# Altium integrated library flatsat_platform_2.IntLib: 69 symbols
Pins are listed as number, name and electrical type; pins without a type are passive.

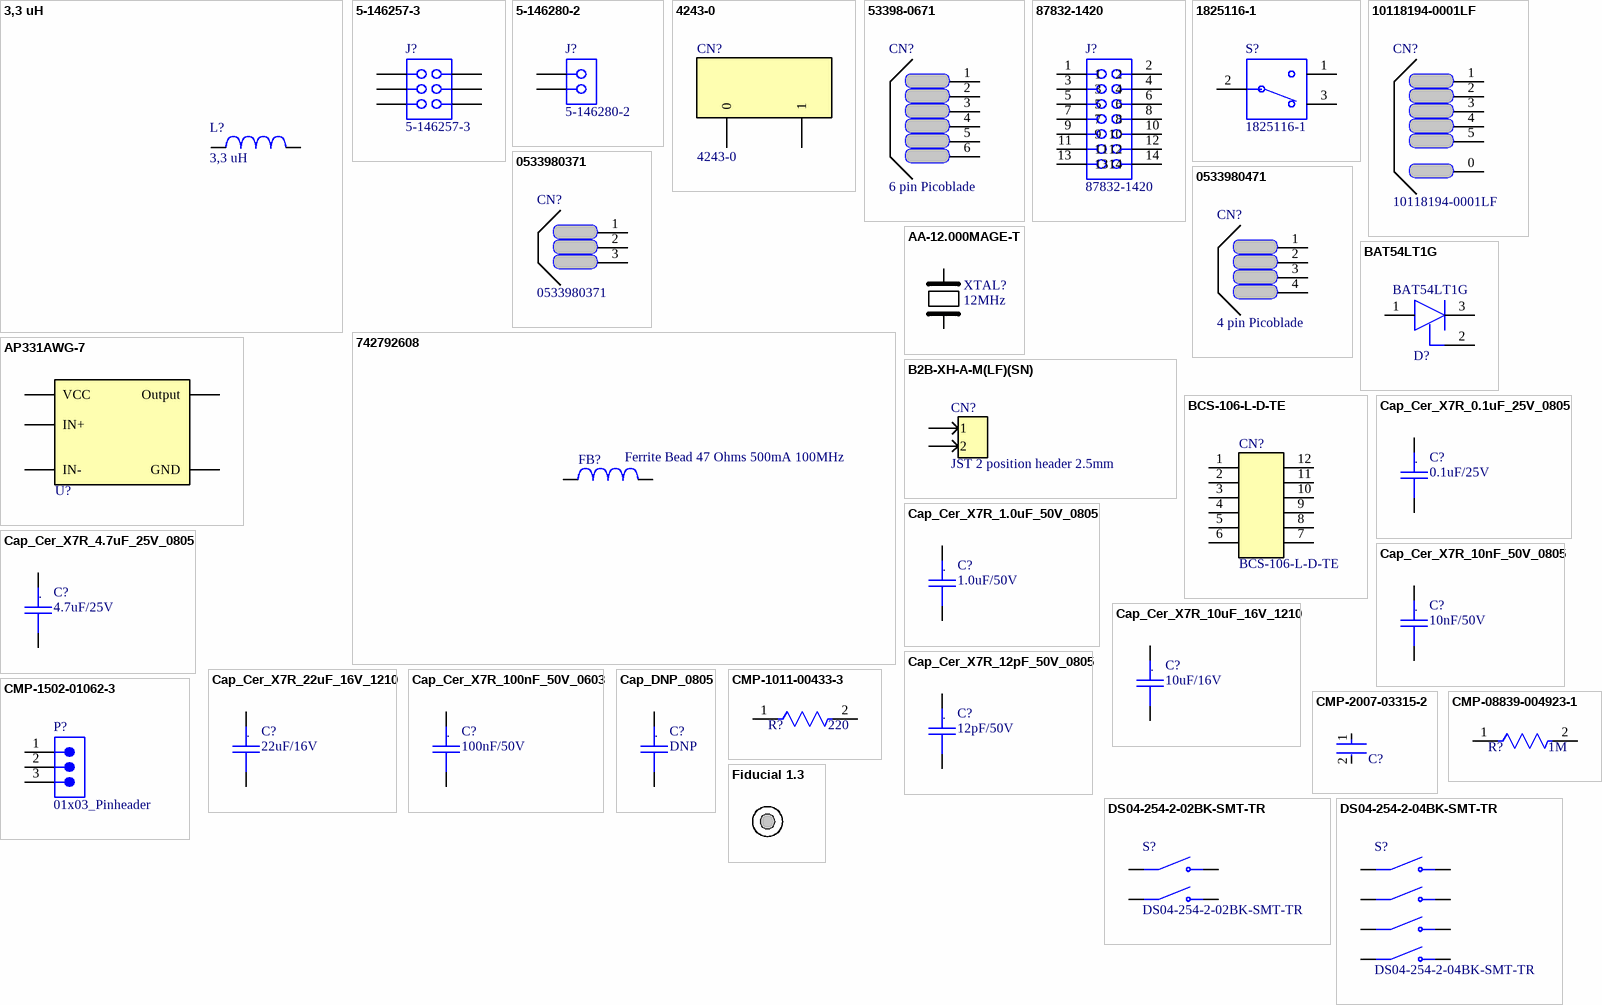
[diagram p0: symbols 3,3 uH to Fiducial 1.3]

## 3,3 uH
designator L?
3.3ÂµH Shielded Wirewound Inductor 3.5A 20mOhm Max Nonstandard; Manufacturer Part Number: SRR6038-3R3Y; MF: Bourns; Value: *; Availability: Unavailable; Price: None; SnapEDA_Link: https://www.snapeda.com/parts/SRR6038-3R3Y/Bourns/view-part/885274/?ref=snap; Package: Nonstandard Bourns
footprint SRR6038
footprint SRR6038
pins: 1, 2

## 5-146257-3
designator J?
Header; Breakaway; 0.100 x 0.100 in.; PC Board; Dual; 6; 0.025 in.; 0.12 in.; Product_Type: Connector; Number_of_Positions: 6; MF: TE Connectivity; Centerline_Pitch: 2.54 mm[.1 in]; Package: None; EU_RoHS_Compliance: Compliant; DigiKey-Purchase-URL: https://snapeda.com/shop?store=DigiKey&id=338021; Value: *; Mouser-Purchase-URL: https://snapeda.com/shop?store=Mouser&id=338021; Availability: Warning; Price: None; SnapEDA_Link: https://www.snapeda.com/parts/5-146257-3/TE%20Connectivity%20AMP%20Connectors/view-part/338021/?ref=snap; Manufacturer Part Number: 5-146257-3
footprint TE_5-146257-3
footprint TE_5-146257-3
pins: 1, 2, 3, 4, 5, 6

## 5-146280-2
designator J?
02 MODII HDR SRST B/A .100CL; MF: TE Connectivity; Product_Type: Connector; Number_of_Positions: 2; Centerline_Pitch: 2.54 mm[.1 in]; SnapEDA_Link: https://www.snapeda.com/parts/5-146280-2/TE%20Connectivity%20AMP%20Connectors/view-part/298520/?ref=snap; Price: None; EU_RoHS_Compliance: Compliant; Package: None; Availability: Unavailable; TE_purchase_URL: https://www.te.com/usa-en/product-5-146280-2.html?te_bu=Cor&te_type=disp&te_campaign=seda_glo_cor-seda-global-disp-prtnr-fy19-seda-model-bom-cta_sma-317_1&elqCampaignId=32493; Value: *; Manufacturer Part Number: 5-146280-2
footprint TE_5-146280-2
footprint PIN BAR 2 2.54mm 180 GRAUS (HEADER 2 2.54mm 180 GRAUS)
pins: 1, 2

## 4243-0
designator CN?
POMONA, 4243-0, Binding Post, 4243 Series, 15 A, 60 VDC, Tin Plated Contacts, Brass, Black; Manufacturer: Pomona Electronics; Voltage Rating: 2.5kV; Current Rating: 15A; Voltage Rating (DC): 60V; Voltage Rating (AC): 30V; Insulation: Insulated; Number of Ports: 2; Hole Diameter: 0.1inch; Panel Thickness: 6.35mm; Supplier 1: Digi-Key; Manufacturer Part Number: 4243-0; RoHS: Yes; Category: Connectors; Stock 1: 327; Pricing 1: 1=8.99000, 25=8.54040, 50=8.09100, 100=7.73150 (USD); Mount: Panel; Number of Pins: 1; Contact Plating: Tin,Bright; Contact Material: Brass; Color: Black,Red; Housing Material: Polycarbonate; Housing Color: Black; Body Material: Brass; Insulation Material: Polycarbonate; Package Quantity: 5; Packaging: Bulk; Termination: Turret; Orientation: Straight; Max Current Rating: 15A; Length: 30.23mm; Depth: 11.18mm; REACH SVHC: No SVHC; Lead Free: Lead Free; ComponentLink1URL: https://datasheet.ciiva.com/1453/d4243-1-01-1453890.pdf?src-supplier=Element14; ComponentLink1Description: https://datasheet.ciiva.com/1453/d4243-1-01-1453890.pdf?src-supplier=Element14; ComponentLink2URL: https://datasheet.ciiva.com/16883/70198115-16883751.pdf?src-supplier=Allied+Electronics; ComponentLink2Description: https://datasheet.ciiva.com/16883/70198115-16883751.pdf?src-supplier=Allied+Electronics; ComponentLink3URL: https://datasheet.ciiva.com/30105/d4243-1-02-30105753.pdf?src-supplier=Onlinecomponents.com; ComponentLink3Description: https://datasheet.ciiva.com/30105/d4243-1-02-30105753.pdf?src-supplier=Onlinecomponents.com; Supplier Part Number 1: 501-1126-ND
footprint 4243-0
pins: 0, 1

## 53398-0671
designator CN?, comment 6 pin Picoblade
1.25mm Pitch PicoBlade™ Header, Surface Mount, Vertical, 6 Circuits; Manufacturer: Molex; Manufacturer Part Number: 53398-0671; Body Plating: Tin; Contact Resistance: 20mR; Voltage Rating: 125V; Current Rating: 1A; Number of Positions: 6; Insulation Resistance: 100MR; Gender: Male; Glow Wire Compliant: Non-compliant; Supplier 1: Digi-Key; Supplier Part Number 1: WM7610DKR-ND; Stock 1: 21086; Pricing 1: 1=1.39, 10=1.26, 100=1.0802, 500=0.90014 (USD); Mount: Surface Mount; Color: Natural; Contact Plating: Tin; Contact Material: Bronze,Tin; Housing Color: Natural; Housing Material: Nylon; Min Operating Temperature: -40°C; Max Operating Temperature: 85°C; Packaging: Tape and Reel; Number of Rows: 1; Voltage Rating (AC): 125V; Package Quantity: 1000; Termination: Solder; Number of Contacts: 6; Working Voltage: 125V; Orientation: Vertical; Number of Circuits: 6; Voltage Rating (DC): 125V; Lead Pitch: 1.25mm; Pitch: 1.25mm; Radiation Hardening: No; REACH SVHC: Unknown; Lead Free: Lead Free; Flammability Rating: UL94 V-0; ComponentLink1URL: https://www.molex.com/pdm_docs/sd/533980671_sd.pdf?src-supplier=Digi-Key; ComponentLink1Description: https://www.molex.com/pdm_docs/sd/533980671_sd.pdf?src-supplier=Digi-Key; Supplier 2: Mouser; Supplier Part Number 2: 538-53398-0671; Stock 2: 26; Pricing 2: 1=1.15, 10=1.01, 100=0.864, 500=0.727, 1000=0.427, 2000=0.374 (USD)
footprint PICO BLADE 0533980671 (CONN HEADER SMD 6POS 1.25MM)
pins: 1, 2, 3, 4, 5, 6

## 87832-1420
designator J?
Connector Header Surface Mount 14 position 0.079 _2.00mm_; Manufacturer Part Number: TSW-107-05-F-D; MF: Molex; Value: *; SnapEDA_Link: https://www.snapeda.com/parts/87832-1420/Molex/view-part/78740/?ref=snap; Price: None; Package: None; Availability: Unavailable
footprint MOLEX_87832-1420
footprint MOLEX_87832-1420
footprint SAMTEC_TSW-107-05-F-D
pins: 1, 2, 3, 4, 5, 6, 7, 8, 9, 10, 11, 12, 13, 14

## 1825116-1
designator S?
Slide Switch SPDT Through Hole, Right Angle; MF: TE Connectivity; Price: None; Value: *; EU_RoHS_Compliance: Compliant; Package: None; TE_purchase_URL: https://www.te.com/usa-en/product-1825116-1.html?te_bu=Cor&te_type=disp&te_campaign=seda_glo_cor-seda-global-disp-prtnr-fy19-seda-model-bom-cta_sma-317_1&elqCampaignId=32493; SnapEDA_Link: https://www.snapeda.com/parts/1825116-1/TE%20Connectivity%20ALCOSWITCH%20Switches/view-part/497270/?ref=snap; Availability: Unavailable; Manufacturer Part Number: 1825116-1
footprint SW_1825116-1
footprint SW_1825116-1
pins: 1, 2, 3

## 10118194-0001LF
designator CN?
CONN USB MICRO B RECPT SMT R/A; Manufacturer: FCI; N of Positions: 5; Pitch: 0.65mm; Mount Type: PTH; Supplier 1: Digi-Key; Supplier 2: Farnell; Supplier 3: Mouser; Supplier 4: Newark; Supplier Part Number 1: 609-4618-1-ND; Supplier Part Number 2: 1645325; Supplier Part Number 3: 649-10118194-0001LF; Supplier Part Number 4: 67T2260; Manufacturer Part Number: 10118194-0001LF
footprint MICRO USB B 90GRAUS
pins: 0, 1, 2, 3, 4, 5

## 0533980371
designator CN?
CONN HEADER SMD 3POS 1.25MM; Manufacturer: Molex; Manufacturer Part Number: 53398-0371; N of Positions: 3; Pitch: 1.25mm; Mount Type: SMD; Value: 0533980371
footprint PICO BLADE 0533980371
pins: 1, 2, 3

## 0533980471
designator CN?, comment 4 pin Picoblade
1.25mm Pitch PicoBlade™ Header, Surface Mount, Vertical, 4 Circuits; Manufacturer: Molex; Manufacturer Part Number: 53398-0471; N of Positions: 4; Value: 0533980471; Body Plating: Tin; Gender: Male; Current Rating: 1A; Voltage Rating: 125V; Contact Resistance: 20mR; Insulation Resistance: 100MR; Glow Wire Compliant: Non-compliant; Pitch: 1.25mm; Mount Type: SMD; Supplier 1: Digi-Key; Supplier Part Number 1: WM7608CT-ND; Stock 1: 21236; Pricing 1: 1=1.19, 10=1.044, 100=0.901, 500=0.73716 (USD); Mount: Surface Mount; Contact Plating: Tin; Contact Material: Bronze,Tin,Brass; Color: Natural; Housing Color: Natural; Housing Material: Nylon; Min Operating Temperature: -40°C; Max Operating Temperature: 85°C; Number of Rows: 1; Packaging: Tape and Reel; Number of Positions: 4; Termination: Solder; Package Quantity: 1000; Voltage Rating (AC): 125V; Number of Contacts: 4; Working Voltage: 125V; Orientation: Vertical; Number of Circuits: 4; Voltage Rating (DC): 125V; Lead Pitch: 1.25mm; Radiation Hardening: No; Flammability Rating: UL94 V-0; REACH SVHC: Unknown; Lead Free: Lead Free; ComponentLink1URL: http://www.mouser.com/ds/2/276/0533980471_PCB_HEADERS-171069.pdf?src-supplier=Mouser; ComponentLink1Description: http://www.mouser.com/ds/2/276/0533980471_PCB_HEADERS-171069.pdf?src-supplier=Mouser; ComponentLink2URL: http://www.jameco.com/Jameco/Products/ProdDS/1932627.pdf?src-supplier=Jameco; ComponentLink2Description: http://www.jameco.com/Jameco/Products/ProdDS/1932627.pdf?src-supplier=Jameco; ComponentLink3URL: https://www.distrelec.biz/Web/Downloads/46/_e/gf116833-116846_e.pdf?mime=application%2Fpdf&src-supplier=Distrelec; ComponentLink3Description: https://www.distrelec.biz/Web/Downloads/46/_e/gf116833-116846_e.pdf?mime=application%2Fpdf&src-supplier=Distrelec; ComponentLink4URL: http://www.molex.com/webdocs/datasheets/pdf/en-us/0533980471_PCB_HEADERS.pdf?src-supplier=Element14; ComponentLink4Description: http://www.molex.com/webdocs/datasheets/pdf/en-us/0533980471_PCB_HEADERS.pdf?src-supplier=Element14; ComponentLink5URL: http://www.farnell.com/datasheets/1867381.pdf?src-supplier=Element14; ComponentLink5Description: http://www.farnell.com/datasheets/1867381.pdf?src-supplier=Element14; ComponentLink6URL: http://uk.rs-online.com/webdocs/13c4/0900766b813c4500.pdf?src-supplier=RSComponents; ComponentLink6Description: http://uk.rs-online.com/webdocs/13c4/0900766b813c4500.pdf?src-supplier=RSComponents; ComponentLink7URL: http://www.molex.com/webdocs/datasheets/pdf/en-us/0533980471_PCB_HEADERS.pdf?src-supplier=Farnell; ComponentLink7Description: http://www.molex.com/webdocs/datasheets/pdf/en-us/0533980471_PCB_HEADERS.pdf?src-supplier=Farnell; ComponentLink8URL: http://www.farnell.com/datasheets/2697809.pdf?src-supplier=Element14; ComponentLink8Description: http://www.farnell.com/datasheets/2697809.pdf?src-supplier=Element14; ComponentLink9URL: http://www.molex.com/webdocs/datasheets/pdf/en-us/0533980471_PCB_HEADERS.pdf?src-supplier=Avnet; ComponentLink9Description: http://www.molex.com/webdocs/datasheets/pdf/en-us/0533980471_PCB_HEADERS.pdf?src-supplier=Avnet; ComponentLink10URL: http://www.molex.com/webdocs/datasheets/pdf/en-us/0533980471_PCB_HEADERS.pdf?src-supplier=Avnet+Europe; ComponentLink10Description: http://www.molex.com/webdocs/datasheets/pdf/en-us/0533980471_PCB_HEADERS.pdf?src-supplier=Avnet+Europe; Supplier 2: Mouser; Supplier Part Number 2: 538-53398-0471; Stock 2: 43680; Pricing 2: 1=0.98, 10=0.832, 100=0.716, 500=0.6, 1000=0.391, 2000=0.342 (USD)
footprint PICO BLADE 0533980471
pins: 1, 2, 3, 4

## 742792608
designator FB?, comment Ferrite Bead 47 Ohms 500mA 100MHz
WURTH ELEKTRONIK   742792608   FERRITE BEAD, 47 OHM, 0.5A, 0603; Manufacturer: Wurth Electronics; Resistance: 100mR; Inductance: 1H; Tolerance: 25%; Number of Lines: 1; Supplier 1: Digi-Key; Supplier Part Number 1: 732-1596-1-ND; Stock 1: 969; Pricing 1: 1=0.17, 50=0.168, 100=0.155, 500=0.148, 1000=0.141, 2000=0.134 (USD); Mount: Surface Mount; Case/Package: SMD/SMT; Weight: 0.000141oz; Core Material: Ferrite; Case Code (Metric): 1608; Case Code (Imperial): 0603; Material: Ferrite; Min Operating Temperature: -55°C; Max Operating Temperature: 125°C; Package Quantity: 1; Packaging: Tape and Reel; Max Current Rating: 500mA; DC Resistance (DCR): 100mR; Max DC Current: 500mA; Termination: SMD/SMT; Length: 1.6mm; Height: 0.8mm; Width: 0.8mm; Depth: 0.8mm; REACH SVHC: Unknown; Lead Free: Lead Free; ComponentLink1URL: http://katalog.we-online.de/pbs/datasheet/742792608.pdf?src-supplier=Digi-Key; ComponentLink1Description: http://katalog.we-online.de/pbs/datasheet/742792608.pdf?src-supplier=Digi-Key; ComponentLink2URL: http://www.farnell.com/datasheets/2290671.pdf?src-supplier=Farnell; ComponentLink2Description: http://www.farnell.com/datasheets/2290671.pdf?src-supplier=Farnell; ComponentLink3URL: http://documents.rs-components.com/techlib://itc_doclist_GB.htm?stockno=6693986&src-supplier=RSComponents; ComponentLink3Description: http://documents.rs-components.com/techlib://itc_doclist_GB.htm?stockno=6693986&src-supplier=RSComponents; ComponentLink4URL: http://www.farnell.com/datasheets/1696033.pdf?src-supplier=Element14; ComponentLink4Description: http://www.farnell.com/datasheets/1696033.pdf?src-supplier=Element14; ComponentLink5URL: http://www.mouser.com/ds/2/445/742792608-538481.pdf?src-supplier=Mouser; ComponentLink5Description: http://www.mouser.com/ds/2/445/742792608-538481.pdf?src-supplier=Mouser; ComponentLink6URL: http://www.farnell.com/datasheets/2290671.pdf?src-supplier=Newark; ComponentLink6Description: http://www.farnell.com/datasheets/2290671.pdf?src-supplier=Newark; Supplier 2: Mouser; Supplier Part Number 2: 710-742792608; Stock 2: 6414; Pricing 2: 1=0.18, 10=0.172, 25=0.172, 50=0.168, 100=0.155, 250=0.155 (USD); Manufacturer Part Number: 742792608
footprint L0603
pins: 1, 2

## AA-12.000MAGE-T
designator XTAL?, comment Frequency: 12MHz  (hidden comment: 12.000MHz 12pF)
Crystals 12.000MHz 30ppm 12pF -40C to 85C; Manufacturer: TXC; Manufacturer Part Number: AA-12.000MAGE-T; ESR (Equivalent Series Resistance): 100R; Frequency Stability: 50ppm; Supplier 1: Digi-Key; Supplier Part Number 1: 887-1656-1-ND; Stock 1: 2398; Pricing 1: 1=0.83, 10=0.734, 50=0.6858, 100=0.6061, 500=0.5742 (USD); Mount: Surface Mount; Case/Package: SMD/SMT; Number of Pins: 2; Min Operating Temperature: -40°C; Max Operating Temperature: 85°C; Package Quantity: 1000; Tolerance: 30ppm; Packaging: Tape and Reel; Frequency Tolerance: 30ppm; Termination: SMD/SMT; Length: 0.197inch; Height: 0.053inch; Width: 3.2mm; Ratings: AEC-Q200; REACH SVHC: No SVHC; ComponentLink1URL: http://www.txccrystal.com/images/pdf/number-crystal-automotive.pdf?src-supplier=Digi-Key; ComponentLink1Description: http://www.txccrystal.com/images/pdf/number-crystal-automotive.pdf?src-supplier=Digi-Key; ComponentLink2URL: http://www.farnell.com/datasheets/1811860.pdf?src-supplier=Element14; ComponentLink2Description: http://www.farnell.com/datasheets/1811860.pdf?src-supplier=Element14; Supplier 2: Mouser; Supplier Part Number 2: 717-AA-12.000MAGE-T; Stock 2: 4856; Pricing 2: 1=0.83, 10=0.734, 50=0.685, 100=0.606, 500=0.574, 1000=0.435 (USD)
footprint TXC 7A Series
pins: 1, 2

## AP331AWG-7
designator U?  (value not drawn)
Manufacturer Part Number: AP331AWG-7
footprint SOT95P280X145-5N
pins: 1 IN- (hiz), 2 GND (power), 3 IN+ (hiz), 4 Output (power), 5 VCC (power)

## B2B-XH-A-M(LF)(SN)
designator CN?, comment JST 2 position header 2.5mm
CONN HEADER TOP 2POS 2.5MM GRN; Manufacturer Part Number: B2B-XH-A-M(LF)(SN); Number of Positions: 2; Connector Type: Male Pin; Pitch: 0.098inch; Supplier 1: Digi-Key; Supplier Part Number 1: 455-2879-ND; Manufacturer: JST; Stock 1: 5564; Pricing 1: 1=0.17, 10=0.157, 100=0.0966, 500=0.07998, 1000=0.06999, 5000=0.05999, 10000=0.05832 (USD); Mount: Through Hole; Color: Natural; Contact Plating: Tin; Packaging: Bulk; Number of Rows: 1; Termination: Press-Fit; Fastening Type: Detent; Package Quantity: 1000; ComponentLink1Description: http://www.jst-mfg.com/product/pdf/eng/eXH.pdf; ComponentLink1URL: http://www.jst-mfg.com/product/pdf/eng/eXH.pdf
footprint B2B-XH-A-M(LF)(SN)
pins: 1, 2

## BAT54LT1G
designator D?
Manufacturer Part Number: BAT54LT1G
footprint SOT95P237X112-3N
pins: 1 A, 2 NC, 3 C

## BCS-106-L-D-TE
designator CN?
CONN RCPT 12POS 0.1 GOLD PCB; Manufacturer: Samtec; Number of Contacts: 12; Gender: Receptacle; Max Current Rating: 5.9A; Contact Resistance: 10mR; Max Voltage Rating (AC): 475V; Pitch: 2.54mm; Row Spacing: 0.1inch; Supplier 1: Digi-Key; Manufacturer Part Number: BCS-106-L-D-TE; RoHS: Yes; Category: Connectors; Stock 1: 7411; Pricing 1: 1=1.77000, 10=1.60200, 25=1.50360, 50=1.43820, 100=1.37290, 250=1.24216, 500=1.14408 (USD); Mount: Through Hole; Contact Plating: Gold; Contact Material: Bronze; Color: Black; Housing Color: Black; Housing Material: Polymer; Min Operating Temperature: -55°C; Max Operating Temperature: 125°C; Number of Rows: 2; Termination: Solder; Packaging: Rail/Tube; Connector Type: Receptacle; Number of Positions: 12; Orientation: Vertical; Length: 15.24mm; Depth: 5.08mm; Width: 5.08mm; Radiation Hardening: No; REACH SVHC: No SVHC; Lead Free: Lead Free; ComponentLink1URL: https://datasheet.ciiva.com/16706/bcs-16706444.pdf?src-supplier=Avnet+Europe; ComponentLink1Description: https://datasheet.ciiva.com/16706/bcs-16706444.pdf?src-supplier=Avnet+Europe; ComponentLink2URL: https://datasheet.ciiva.com/413/bcs-1xx-xxx-x-xx-xxx-mkt-413758.pdf?src-supplier=Digi-Key; ComponentLink2Description: https://datasheet.ciiva.com/413/bcs-1xx-xxx-x-xx-xxx-mkt-413758.pdf?src-supplier=Digi-Key; Supplier Part Number 1: SAM1008-06-ND
footprint BCS-106-L-D-TE
pins: 1, 2, 3, 4, 5, 6, 7, 8, 9, 10, 11, 12

## Cap_Cer_X7R_0.1uF_25V_0805
designator C?, comment 0.1uF/25V
CAP CER 0.1uF 25V 10% X7R 0805; Manufacturer Part Number: CC0805KRX7R8BB104; NCM: 8532.24.10
footprint CC0805 (TDK mlccspec_commercial_general_midvoltage_en.pdf)
pins: 1, 2
text: .

## Cap_Cer_X7R_1.0uF_50V_0805
designator C?, comment 1.0uF/50V
CAP CER 1.0uF 50V 10% X7R 0805; Manufacturer Part Number: C0805X105K5RACAUTO; NCM: 8532.24.10
footprint CC0805 (TDK mlccspec_commercial_general_midvoltage_en.pdf)
pins: 1, 2
text: .

## Cap_Cer_X7R_4.7uF_25V_0805
designator C?, comment 4.7uF/25V
CAP CER 4.7uF 25V 10% X7R 0805; Manufacturer Part Number: C0805C475K3RACAUTO; NCM: 8532.24.10
footprint CC0805 (TDK mlccspec_commercial_general_midvoltage_en.pdf)
pins: 1, 2
text: .

## Cap_Cer_X7R_10nF_50V_0805
designator C?, comment 10nF/50V
CAP CER 0.01uF 50V 10% X7R 0805; Manufacturer Part Number: 08055C103KAT4A; NCM: 8532.24.10
footprint CC0805
pins: 1, 2
text: .

## Cap_Cer_X7R_10uF_16V_1210
designator C?, comment 10uF/16V
CAP CER 10uF 16V 10% X7R 1210; Manufacturer Part Number: C1210C106K4RACTU; NCM: 8532.24.10
footprint CC1210 (TDK mlccspec_commercial_general_midvoltage_en.pdf)
pins: 1, 2
text: .

## Cap_Cer_X7R_12pF_50V_0805
designator C?, comment 12pF/50V
CAP CER 12pF 50V 1% C0G/NP0 0805; Manufacturer Part Number: CL21C120FBANNNC; NCM: 8532.24.10
footprint CC0805 (TDK mlccspec_commercial_general_midvoltage_en.pdf)
pins: 1, 2
text: .

## Cap_Cer_X7R_22uF_16V_1210
designator C?, comment 22uF/16V
CAP CER 22uF 16V 10% X7R 1210; Manufacturer Part Number: C3225X7R1C226K250AC; NCM: 8532.24.10
footprint CC1210 (TDK mlccspec_commercial_general_midvoltage_en.pdf)
pins: 1, 2
text: .

## Cap_Cer_X7R_100nF_50V_0603
designator C?, comment 100nF/50V
CAP CER 100nF 50V 10% X7R 0603; Manufacturer Part Number: C0603C104K5RAC3121; NCM: 8532.24.10
footprint CC0805
footprint CC0603
pins: 1, 2
text: .

## Cap_DNP_0805
designator C?, comment DNP
CAP DNP 0805; NCM: 8532.24.10
footprint CC0805 (TDK mlccspec_commercial_general_midvoltage_en.pdf)
pins: 1, 2
text: .

## CMP-1011-00433-3
designator R?, comment 220
RES Thick Film, 220Ω, 1%, 0.063W, 100ppm/°C, 0402; Max Power Dissipation: 63mW; Voltage Rating (DC): 50V; Resistance: 220R; Weight: 2.3E-05oz; Packaging: Tape and Reel; Lead Free: Lead Free; Width: 0.02inch; Tolerance: 1%; Depth: 0.5mm; Termination: SMD/SMT; Case/Package: 0402; Length: 1mm; Min Operating Temperature: -55°C; Contact Plating: Tin; Features: Automotive AEC-Q200; Temperature Coefficient: 100ppm/°C; Package Quantity: 10; Mount: Surface Mount; Number of Terminations: 2; Power Rating: 63mW; Max Operating Temperature: 155°C; Height: 0.35mm; Military Standard: Not; Case Code (Imperial): 0402; Radiation Hardening: No; Voltage Rating: 50V; Composition: Thick Film; Case Code (Metric): 1005
footprint FP-CRCW0402-e3-IPC_C
footprint FP-CRCW0402-e3-IPC_B
footprint FP-CRCW0402-e3-MFG
footprint FP-CRCW0402-e3-IPC_A
pins: 1, 2

## CMP-1502-01062-3
designator P?, comment 01x03_Pinheader
NexarPartId: 32855521; Current Rating: 3A; Voltage Rating: 250V; Number of Positions: 3; Pitch: 2.54mm; Contact Resistance: 20mΩ; Connector Type: Male Pin; Gender: Male; REACH SVHC: Unknown; Packaging: Bulk; Contact Material: Copper; Min Operating Temperature: -40°C; Number of Rows: 1; Orientation: Vertical; RoHS: Compliant; Contact Plating: Gold; Max Operating Temperature: 105°C; Mount: Through Hole; Height: 8.94mm; Operating Supply Voltage: 250V; Number of Pins: 3; Contact Mating Length: 5.9944mm; Number of Contacts: 3; Color: Black; Lead Free: Lead Free; Lead Pitch: 2.54mm; Termination: Solder
footprint 61300311121 (THT Vertical Pin Header WR-PHD, Pitch 2.54 mm, Single Row, 3 pins)
pins: 1, 2, 3

## CMP-2007-03315-2
designator C?, comment C0805C473J3GACTU  (value not drawn)
CAP CER 0.047UF 25V 5% NP0 0805; Manufacturer: KEMET; Tolerance: 0.05; Temperature Coefficient: 30ppm/°C; Material: Ceramic; Capacitance: 47,000 pF; Value: 47,000 pF; Temperature Characteristic: C0G; Device Class L3: Ceramic Capacitors; Temperature Range Low: -55°C; Manufacturer Part Number: C0805C473J3GACTU; Category: Cap; Lead Free: Yes; Digikey Description: CAP CER 0.047UF 25V 5% NP0 0805; Ipc Land Pattern Name: CAPC200125X78; Device Class L1: Passive Components; Device Class L2: Capacitors; Temperature: -55°C to +125°C; Voltage Rating: 25 V; Height: 0.88mm; Package: C0805C-DN; Automotive: No; Octopart: https://octopart.com/c0805c473j3gactu-kemet-9563153; ComponentLink2Description: Datasheet; Mouser Description: Multilayer Ceramic Capacitors MLCC - SMD/SMT 25volts 0.047uF 5% C0G; ComponentLink2URL: https://content.kemet.com/datasheets/KEM_C1003_C0G_SMD.pdf; RoHS: TRUE; Temperature Range High: +125°C
footprint FP-C0805C-DN-MFG
footprint FP-C0805C-DN-IPC_C
footprint FP-C0805C-DN-IPC_B
footprint FP-C0805C-DN-IPC_A
pins: 1, 2

## CMP-08839-004923-1
designator R?, comment 1M
Thick Film Chip Resistor, 0402, 1MΩ, 5%, 200ppm/°C, 0.063W, 50V; Max Power Dissipation: 63mW; Resistance: 1MR; Resistor Type: Thick Film; Temperature Coefficient: 200ppm/°C; Series: MCR; Case Code (Metric): 1005; Min Operating Temperature: -55°C; Case Code (Imperial): 0402; Length: 0.039inch; Height: 0.016inch; RoHS Compliant: Yes; Tolerance: 5%; Width: 0.02inch; Packaging: Tape and Reel; Package Quantity: 1; Max Operating Temperature: 155°C; Voltage Rating (DC): 50V; Case/Package: 0402; Number of Terminations: 2
footprint FP-MCR01-IPC_A
footprint FP-MCR01-IPC_C
footprint FP-MCR01-IPC_B
footprint FP-MCR01-MFG
pins: 1, 2

## DS04-254-2-02BK-SMT-TR
designator S?
1 ~ 12 positions, Surface Mount, 2.54 mm Pitch, Slide Actuator, DIP Switch; MF: CUI Devices; Value: *; Availability: Unavailable; Price: None; SnapEDA_Link: https://www.snapeda.com/parts/DS04-254-2-02BK-SMT-TR/CUI%20Devices/view-part/4467272/?ref=snap; Package: None; Manufacturer Part Number: DS04-254-2-02BK-SMT-TR
footprint SW_DS04-254-2-02BK-SMT-TR
footprint SW_DS04-254-2-02BK-SMT-TR
pins: 1A COM1, 1B NO1, 2A COM2, 2B NO2

## DS04-254-2-04BK-SMT-TR
designator S?
1 ~ 12 positions, Surface Mount, 2.54 mm Pitch, Slide Actuator, DIP Switch; MF: CUI Devices; Package: None; Availability: Unavailable; Value: *; CUI_purchase_URL: https://www.cuidevices.com/product/switches/dip-switches/ds04-254-smt-series?utm_source=snapeda.com&utm_medium=referral&utm_campaign=snapedaBOM; Price: None; SnapEDA_Link: https://www.snapeda.com/parts/DS04-254-2-04BK-SMT-TR/CUI%20Devices/view-part/4467310/?ref=snap; Mouser-Purchase-URL: https://snapeda.com/shop?store=Mouser&id=4467310; Manufacturer Part Number: DS04-254-2-04BK-SMT-TR
footprint SW_DS04-254-2-04BK-SMT-TR
footprint SW_DS04-254-2-04BK-SMT-TR
pins: 1A COM1, 1B NO1, 2A COM2, 2B NO2, 3A COM3, 3B NO3, 4A COM4, 4B NO4

## Fiducial 1.3
designator FD?  (value not drawn)  (no BOM)
Fiducial 1.3mm
footprint Fiducial 1.3mm

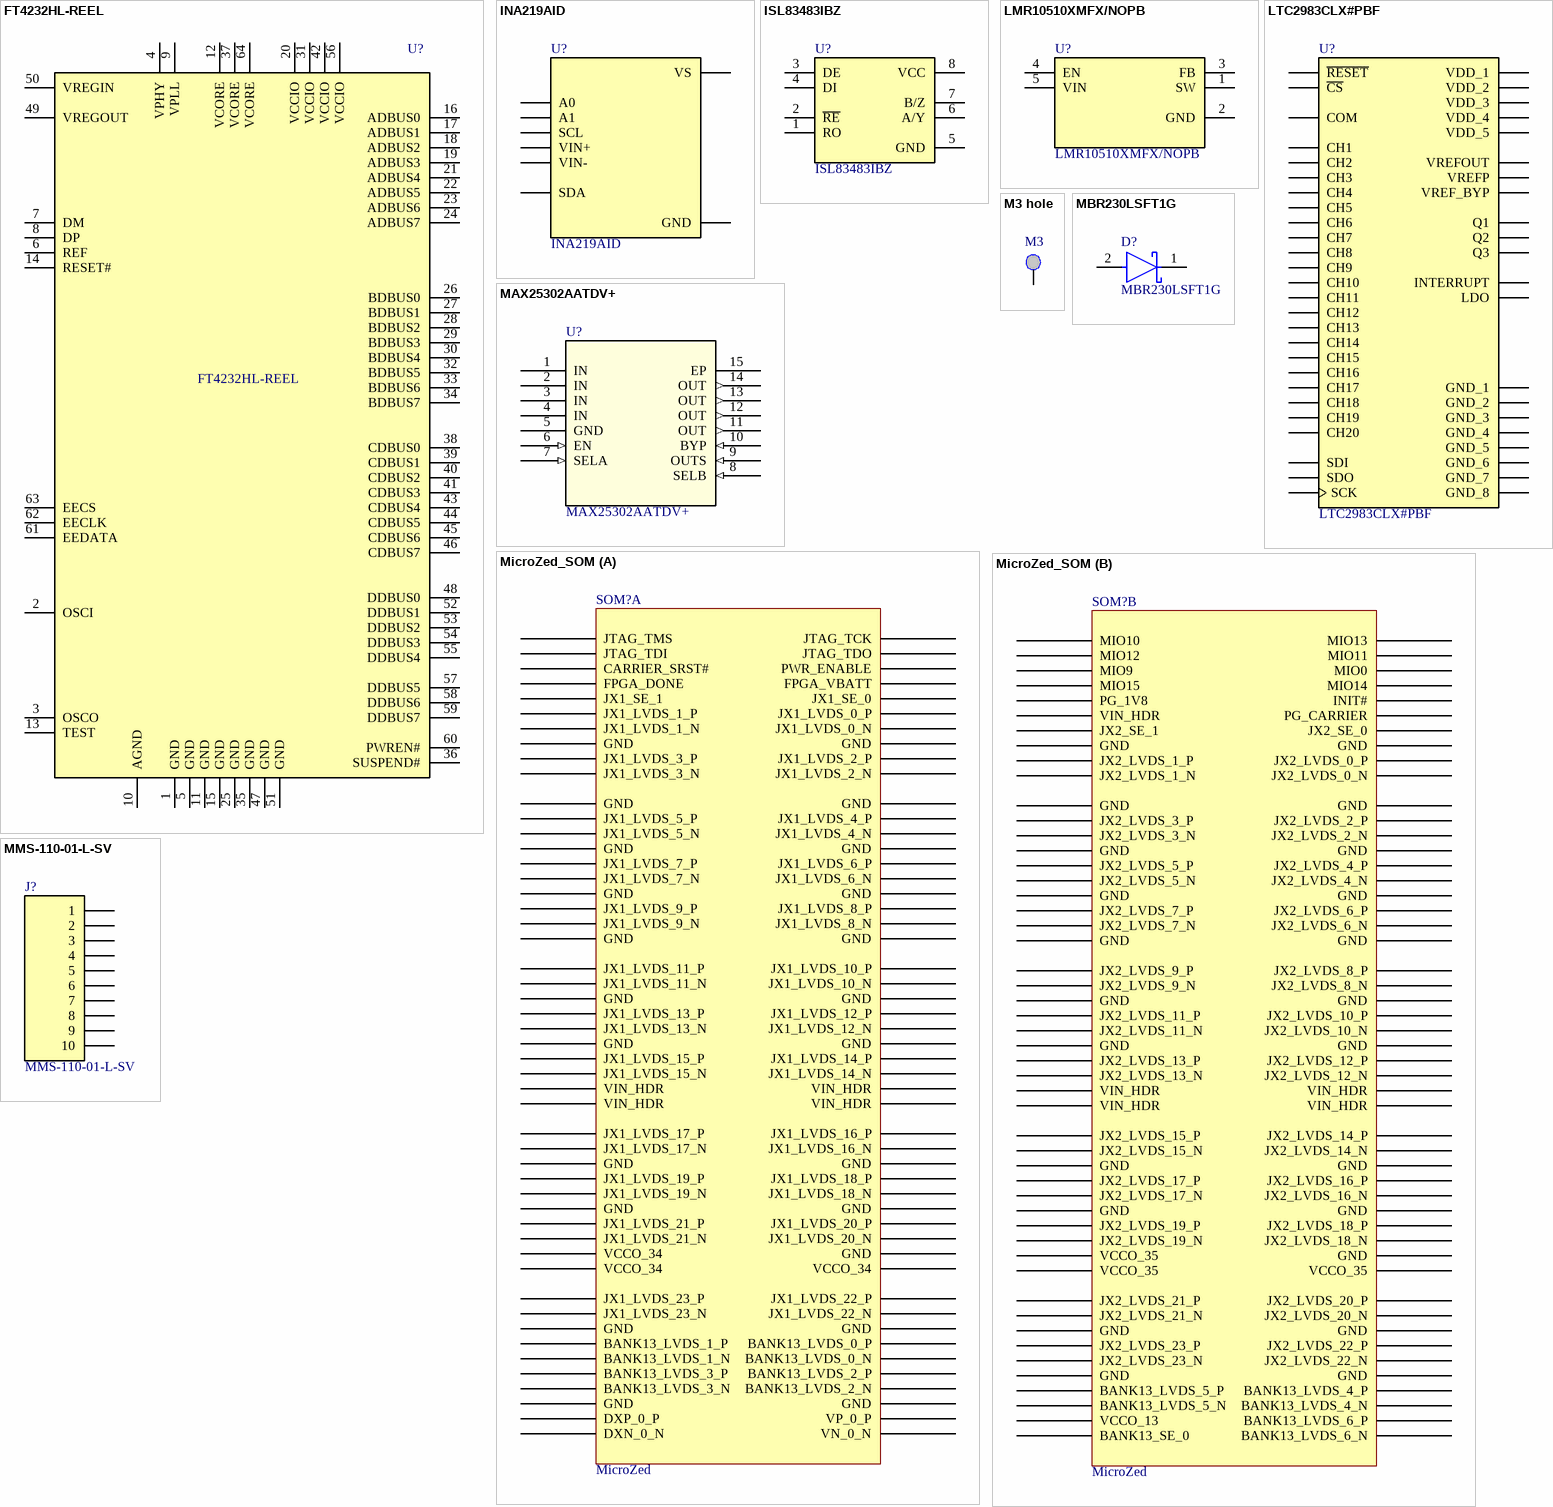
[diagram p1: symbols FT4232HL-REEL to MMS-110-01-L-SV]

## FT4232HL-REEL
designator U?
FTDI - FT4232HL-REEL - USB-UART/MPSSE, 4232, QUAD, 64LQFP; Number of Channels: 1; Data Rate: 480Mbps; Operating Supply Voltage: 3.3V; Max Supply Voltage: 3.63V; Min Supply Voltage: 1.62V; Operating Supply Current: 70mA; Number of Transceivers: 4; ESD Protection: Yes; Interface: UART; Supplier 1: Digi-Key; Supplier Part Number 1: 768-1026-1-ND; Manufacturer: FTDI; Stock 1: 18748; Pricing 1: 1=8.3, 10=8.09, 50=7.46, 100=7.14, 500=6.88006 (USD); Mount: Surface Mount; Case/Package: LQFP; Number of Pins: 64; Weight: 0.012088oz; Min Operating Temperature: -40°C; Max Operating Temperature: 85°C; Packaging: Tape and Reel; Package Quantity: 1000; Dual Supply Voltage: 3.3V; Length: 10.1mm; Height: 1.4mm; Width: 10.1mm; Radiation Hardening: No; Lead Free: Lead Free; ComponentLink1URL: http://www.ftdichip.com/Support/Documents/AppNotes/AN_128_User_Guide_For_FT4232H_Factory%20test%20utility.pdf?src-supplier=Digi-Key; ComponentLink1Description: http://www.ftdichip.com/Support/Documents/AppNotes/AN_128_User_Guide_For_FT4232H_Factory%20test%20utility.pdf?src-supplier=Digi-Key; ComponentLink2URL: http://www.alliedelec.com/images/products/datasheets/bm/FTDI/70403916.pdf?src-supplier=Allied+Electronics; ComponentLink2Description: http://www.alliedelec.com/images/products/datasheets/bm/FTDI/70403916.pdf?src-supplier=Allied+Electronics; ComponentLink3URL: http://www.ftdichip.com/Support/Documents/DataSheets/ICs/DS_FT4232H.pdf?src-supplier=Future+Electronics; ComponentLink3Description: http://www.ftdichip.com/Support/Documents/DataSheets/ICs/DS_FT4232H.pdf?src-supplier=Future+Electronics; ComponentLink4URL: https://www.verical.com/server-webapp/html/getDatasheet?partID=643215&src-supplier=Verical; ComponentLink4Description: https://www.verical.com/server-webapp/html/getDatasheet?partID=643215&src-supplier=Verical; ComponentLink5URL: http://datasheet.iiic.cc/ftdi/FT4232HL-REEL.pdf?src-supplier=IIIC; ComponentLink5Description: http://datasheet.iiic.cc/ftdi/FT4232HL-REEL.pdf?src-supplier=IIIC; Supplier 2: Mouser; Supplier Part Number 2: 895-FT4232HL; Stock 2: 21282; Pricing 2: 1=8.3, 25=8.09, 50=7.46, 100=7.14, 500=6.88, 1000=6.08 (USD); Manufacturer Part Number: FT4232HL-REEL
footprint LQFP-64 (64-Pin LQFP 0.5 mm Pitch)
pins: 1 GND, 2 OSCI (power), 3 OSCO (power), 4 VPHY (power), 5 GND, 6 REF (power), 7 DM (power), 8 DP (power), 9 VPLL (power), 10 AGND, 11 GND, 12 VCORE (power), 13 TEST (power), 14 RESET# (power), 15 GND, 16 ADBUS0 (power), 17 ADBUS1 (power), 18 ADBUS2 (power), 19 ADBUS3 (power), 20 VCCIO (power), 21 ADBUS4 (power), 22 ADBUS5 (power), 23 ADBUS6 (power), 24 ADBUS7 (power), 25 GND, 26 BDBUS0 (power), 27 BDBUS1 (power), 28 BDBUS2 (power), 29 BDBUS3 (power), 30 BDBUS4 (power), 31 VCCIO (power), 32 BDBUS5 (power), 33 BDBUS6 (power), 34 BDBUS7 (power), 35 GND, 36 SUSPEND# (power), 37 VCORE (power), 38 CDBUS0 (power), 39 CDBUS1 (power), 40 CDBUS2 (power), 41 CDBUS3 (power), 42 VCCIO (power), 43 CDBUS4 (power), 44 CDBUS5 (power), 45 CDBUS6 (power), 46 CDBUS7 (power), 47 GND, 48 DDBUS0 (power), 49 VREGOUT (power), 50 VREGIN (power), 51 GND, 52 DDBUS1 (power), 53 DDBUS2 (power), 54 DDBUS3 (power), 55 DDBUS4 (power), 56 VCCIO (power), 57 DDBUS5 (power), 58 DDBUS6 (power), 59 DDBUS7 (power), 60 PWREN# (power), 61 EEDATA (power), 62 EECLK (power), 63 EECS (power), 64 VCORE (power)

## INA219AID
designator U?
26V, 12-bit, i2c output current/voltage/power monitor 8-SOIC -40 to 125; MF: Texas Instruments; Purchase-URL: https://pricing.snapeda.com/search/part/INA219AID/?ref=eda; Package: SOIC-8 Texas Instruments; SnapEDA_Link: https://www.snapeda.com/parts/INA219AID/Texas%20Instruments/view-part/522322/?ref=snap; Value: *; Price: None; Availability: Warning; Check_prices: https://www.snapeda.com/parts/INA219AID/Texas%20Instruments/view-part/522322/?ref=eda; Manufacturer Part Number: INA219AID
footprint SOIC127P599X175-8N
footprint SOIC127P599X175-8N
pins: 1 A1 (power), 2 A0 (power), 3 SDA (power), 4 SCL (power), 5 VS (power), 6 GND (power), 7 VIN- (power), 8 VIN+ (power)

## ISL83483IBZ
designator U?
1/1 Transceiver Half RS422, RS485 8-SOIC; Manufacturer Part Number: ISL83483IBZ-T; MF: Renesas Electronics; Price: None; SnapEDA_Link: https://www.snapeda.com/parts/ISL83483IBZ-T/Renesas%20Electronics%20America%20Inc./view-part/482105/?ref=snap; Availability: Unavailable; Value: *; Package: SOIC-8 Intersil
footprint SOIC127P600X175-8N
footprint SOIC127P600X175-8N
pins: 1 RO (power), 2 ~{RE} (power), 3 DE (power), 4 DI (power), 5 GND (power), 6 A/Y (power), 7 B/Z (power), 8 VCC (power)

## LMR10510XMFX/NOPB
designator U?
Package: None; Price: None; Value: *; Availability: Unavailable; Manufacturer Part Number: LMR10510XMFX/NOPB
footprint SOT95P280X145-5N
footprint SOT95P280X145-5N
pins: 1 SW (power), 2 GND (power), 3 FB (power), 4 EN (power), 5 VIN (power)

## LTC2983CLX#PBF
designator U?
IC SENSOR THERMAL; MF: Analog Devices; Value: *; SnapEDA_Link: https://www.snapeda.com/parts/LTC2983CLX%23PBF/Analog%20Devices/view-part/2895071/?ref=snap; Package: LQFP -48 Analog Devices; Manufacturer Part Number: LTC2983CLX#PBF
footprint QFP50P900X900X160-48N
footprint QFP50P900X900X160-48N
pins: 1 GND_1 (power), 2 VDD_1 (power), 3 GND_2 (power), 4 VDD_2 (power), 5 GND_3 (power), 6 VDD_3 (power), 7 GND_4 (power), 8 VDD_4 (power), 9 GND_5 (power), 11 VREF_BYP (power), 12 GND_6 (power), 13 VREFOUT (power), 14 VREFP (power), 15 GND_7 (power), 16 CH1 (power), 17 CH2 (power), 18 CH3 (power), 19 CH4 (power), 20 CH5 (power), 21 CH6 (power), 22 CH7 (power), 23 CH8 (power), 24 CH9 (power), 25 CH10 (power), 26 CH11 (power), 27 CH12 (power), 28 CH13 (power), 29 CH14 (power), 30 CH15 (power), 31 CH16 (power), 32 CH17 (power), 33 CH18 (power), 34 CH19 (power), 35 CH20 (power), 36 COM (power), 37 INTERRUPT (power), 38 SCK (power), 39 SDO (power), 40 SDI (power), 41 ~{CS} (power), 42 ~{RESET} (power), 43 LDO (power), 44 GND_8 (power), 45 VDD_5 (power), 46 Q3 (power), 47 Q2 (power), 48 Q1 (power)

## M3 hole
designator MEC?, comment M3  (no BOM)
M3 hole
footprint M3 hole
pins: 0

## MAX25302AATDV+
designator U?
No Description Available; Mfr_Name: Analog Devices Inc; RefDes: RefDes; Type: Type
footprint 21-100420_T143A3+1C_MXM
pins: 1 IN (power), 2 IN (power), 3 IN (power), 4 IN (power), 5 GND (power), 6 EN (in), 7 SELA (in), 8 SELB (in), 9 OUTS (in), 10 BYP (in), 11 OUT (out), 12 OUT (out), 13 OUT (out), 14 OUT (out), 15 EP (power)

## MBR230LSFT1G
designator D?
Manufacturer Part Number: MBR230LSFT1G
footprint On_Semiconductor_498_MFG
pins: 1 C, 2 A

## MicroZed_SOM
designator SOM?, comment MicroZed
MicroZed SOM Carrier Footprint; Manufacturer Part Number: 61083-101400LF
footprint MicroZedSOM (MicroZed SOM Footprint)
part A pins: JX1-1 JTAG_TCK, JX1-2 JTAG_TMS, JX1-3 JTAG_TDO, JX1-4 JTAG_TDI, JX1-5 PWR_ENABLE, JX1-6 CARRIER_SRST#, JX1-7 FPGA_VBATT, JX1-8 FPGA_DONE, JX1-9 JX1_SE_0, JX1-10 JX1_SE_1, JX1-11 JX1_LVDS_0_P, JX1-12 JX1_LVDS_1_P, JX1-13 JX1_LVDS_0_N, JX1-14 JX1_LVDS_1_N, JX1-15 GND, JX1-16 GND, JX1-17 JX1_LVDS_2_P, JX1-18 JX1_LVDS_3_P, JX1-19 JX1_LVDS_2_N, JX1-20 JX1_LVDS_3_N, JX1-21 GND, JX1-22 GND, JX1-23 JX1_LVDS_4_P, JX1-24 JX1_LVDS_5_P, JX1-25 JX1_LVDS_4_N, JX1-26 JX1_LVDS_5_N, JX1-27 GND, JX1-28 GND, JX1-29 JX1_LVDS_6_P, JX1-30 JX1_LVDS_7_P, JX1-31 JX1_LVDS_6_N, JX1-32 JX1_LVDS_7_N, JX1-33 GND, JX1-34 GND, JX1-35 JX1_LVDS_8_P, JX1-36 JX1_LVDS_9_P, JX1-37 JX1_LVDS_8_N, JX1-38 JX1_LVDS_9_N, JX1-39 GND, JX1-40 GND, JX1-41 JX1_LVDS_10_P, JX1-42 JX1_LVDS_11_P, JX1-43 JX1_LVDS_10_N, JX1-44 JX1_LVDS_11_N, JX1-45 GND, JX1-46 GND, JX1-47 JX1_LVDS_12_P, JX1-48 JX1_LVDS_13_P, JX1-49 JX1_LVDS_12_N, JX1-50 JX1_LVDS_13_N, JX1-51 GND, JX1-52 GND, JX1-53 JX1_LVDS_14_P, JX1-54 JX1_LVDS_15_P, JX1-55 JX1_LVDS_14_N, JX1-56 JX1_LVDS_15_N, JX1-57 VIN_HDR, JX1-58 VIN_HDR, JX1-59 VIN_HDR, JX1-60 VIN_HDR, JX1-61 JX1_LVDS_16_P, JX1-62 JX1_LVDS_17_P, JX1-63 JX1_LVDS_16_N, JX1-64 JX1_LVDS_17_N, JX1-65 GND, JX1-66 GND, JX1-67 JX1_LVDS_18_P, JX1-68 JX1_LVDS_19_P, JX1-69 JX1_LVDS_18_N, JX1-70 JX1_LVDS_19_N, JX1-71 GND, JX1-72 GND, JX1-73 JX1_LVDS_20_P, JX1-74 JX1_LVDS_21_P, JX1-75 JX1_LVDS_20_N, JX1-76 JX1_LVDS_21_N, JX1-77 GND, JX1-78 VCCO_34, JX1-79 VCCO_34, JX1-80 VCCO_34, JX1-81 JX1_LVDS_22_P, JX1-82 JX1_LVDS_23_P, JX1-83 JX1_LVDS_22_N, JX1-84 JX1_LVDS_23_N, JX1-85 GND, JX1-86 GND, JX1-87 BANK13_LVDS_0_P, JX1-88 BANK13_LVDS_1_P, JX1-89 BANK13_LVDS_0_N, JX1-90 BANK13_LVDS_1_N, JX1-91 BANK13_LVDS_2_P, JX1-92 BANK13_LVDS_3_P, JX1-93 BANK13_LVDS_2_N, JX1-94 BANK13_LVDS_3_N, JX1-95 GND, JX1-96 GND, JX1-97 VP_0_P, JX1-98 DXP_0_P, JX1-99 VN_0_N, JX1-100 DXN_0_N
part B pins: JX2-1 MIO13, JX2-2 MIO10, JX2-3 MIO11, JX2-4 MIO12, JX2-5 MIO0, JX2-6 MIO9, JX2-7 MIO14, JX2-8 MIO15, JX2-9 INIT#, JX2-10 PG_1V8, JX2-11 PG_CARRIER, JX2-12 VIN_HDR, JX2-13 JX2_SE_0, JX2-14 JX2_SE_1, JX2-15 GND, JX2-16 GND, JX2-17 JX2_LVDS_0_P, JX2-18 JX2_LVDS_1_P, JX2-19 JX2_LVDS_0_N, JX2-20 JX2_LVDS_1_N, JX2-21 GND, JX2-22 GND, JX2-23 JX2_LVDS_2_P, JX2-24 JX2_LVDS_3_P, JX2-25 JX2_LVDS_2_N, JX2-26 JX2_LVDS_3_N, JX2-27 GND, JX2-28 GND, JX2-29 JX2_LVDS_4_P, JX2-30 JX2_LVDS_5_P, JX2-31 JX2_LVDS_4_N, JX2-32 JX2_LVDS_5_N, JX2-33 GND, JX2-34 GND, JX2-35 JX2_LVDS_6_P, JX2-36 JX2_LVDS_7_P, JX2-37 JX2_LVDS_6_N, JX2-38 JX2_LVDS_7_N, JX2-39 GND, JX2-40 GND, JX2-41 JX2_LVDS_8_P, JX2-42 JX2_LVDS_9_P, JX2-43 JX2_LVDS_8_N, JX2-44 JX2_LVDS_9_N, JX2-45 GND, JX2-46 GND, JX2-47 JX2_LVDS_10_P, JX2-48 JX2_LVDS_11_P, JX2-49 JX2_LVDS_10_N, JX2-50 JX2_LVDS_11_N, JX2-51 GND, JX2-52 GND, JX2-53 JX2_LVDS_12_P, JX2-54 JX2_LVDS_13_P, JX2-55 JX2_LVDS_12_N, JX2-56 JX2_LVDS_13_N, JX2-57 VIN_HDR, JX2-58 VIN_HDR, JX2-59 VIN_HDR, JX2-60 VIN_HDR, JX2-61 JX2_LVDS_14_P, JX2-62 JX2_LVDS_15_P, JX2-63 JX2_LVDS_14_N, JX2-64 JX2_LVDS_15_N, JX2-65 GND, JX2-66 GND, JX2-67 JX2_LVDS_16_P, JX2-68 JX2_LVDS_17_P, JX2-69 JX2_LVDS_16_N, JX2-70 JX2_LVDS_17_N, JX2-71 GND, JX2-72 GND, JX2-73 JX2_LVDS_18_P, JX2-74 JX2_LVDS_19_P, JX2-75 JX2_LVDS_18_N, JX2-76 JX2_LVDS_19_N, JX2-77 GND, JX2-78 VCCO_35, JX2-79 VCCO_35, JX2-80 VCCO_35, JX2-81 JX2_LVDS_20_P, JX2-82 JX2_LVDS_21_P, JX2-83 JX2_LVDS_20_N, JX2-84 JX2_LVDS_21_N, JX2-85 GND, JX2-86 GND, JX2-87 JX2_LVDS_22_P, JX2-88 JX2_LVDS_23_P, JX2-89 JX2_LVDS_22_N, JX2-90 JX2_LVDS_23_N, JX2-91 GND, JX2-92 GND, JX2-93 BANK13_LVDS_4_P, JX2-94 BANK13_LVDS_5_P, JX2-95 BANK13_LVDS_4_N, JX2-96 BANK13_LVDS_5_N, JX2-97 BANK13_LVDS_6_P, JX2-98 VCCO_13, JX2-99 BANK13_LVDS_6_N, JX2-100 BANK13_SE_0

## MMS-110-01-L-SV
designator J?
Conn Socket Strip SKT 10 POS 2mm Solder ST Thru-Hole Tube; Package: None; Price: None; Value: *; Availability: Unavailable; Manufacturer Part Number: MMS-110-01-L-SV
footprint SAMTEC_MMS-110-01-L-SV
footprint SAMTEC_MMS-110-01-L-SV
pins: 1, 2, 3, 4, 5, 6, 7, 8, 9, 10

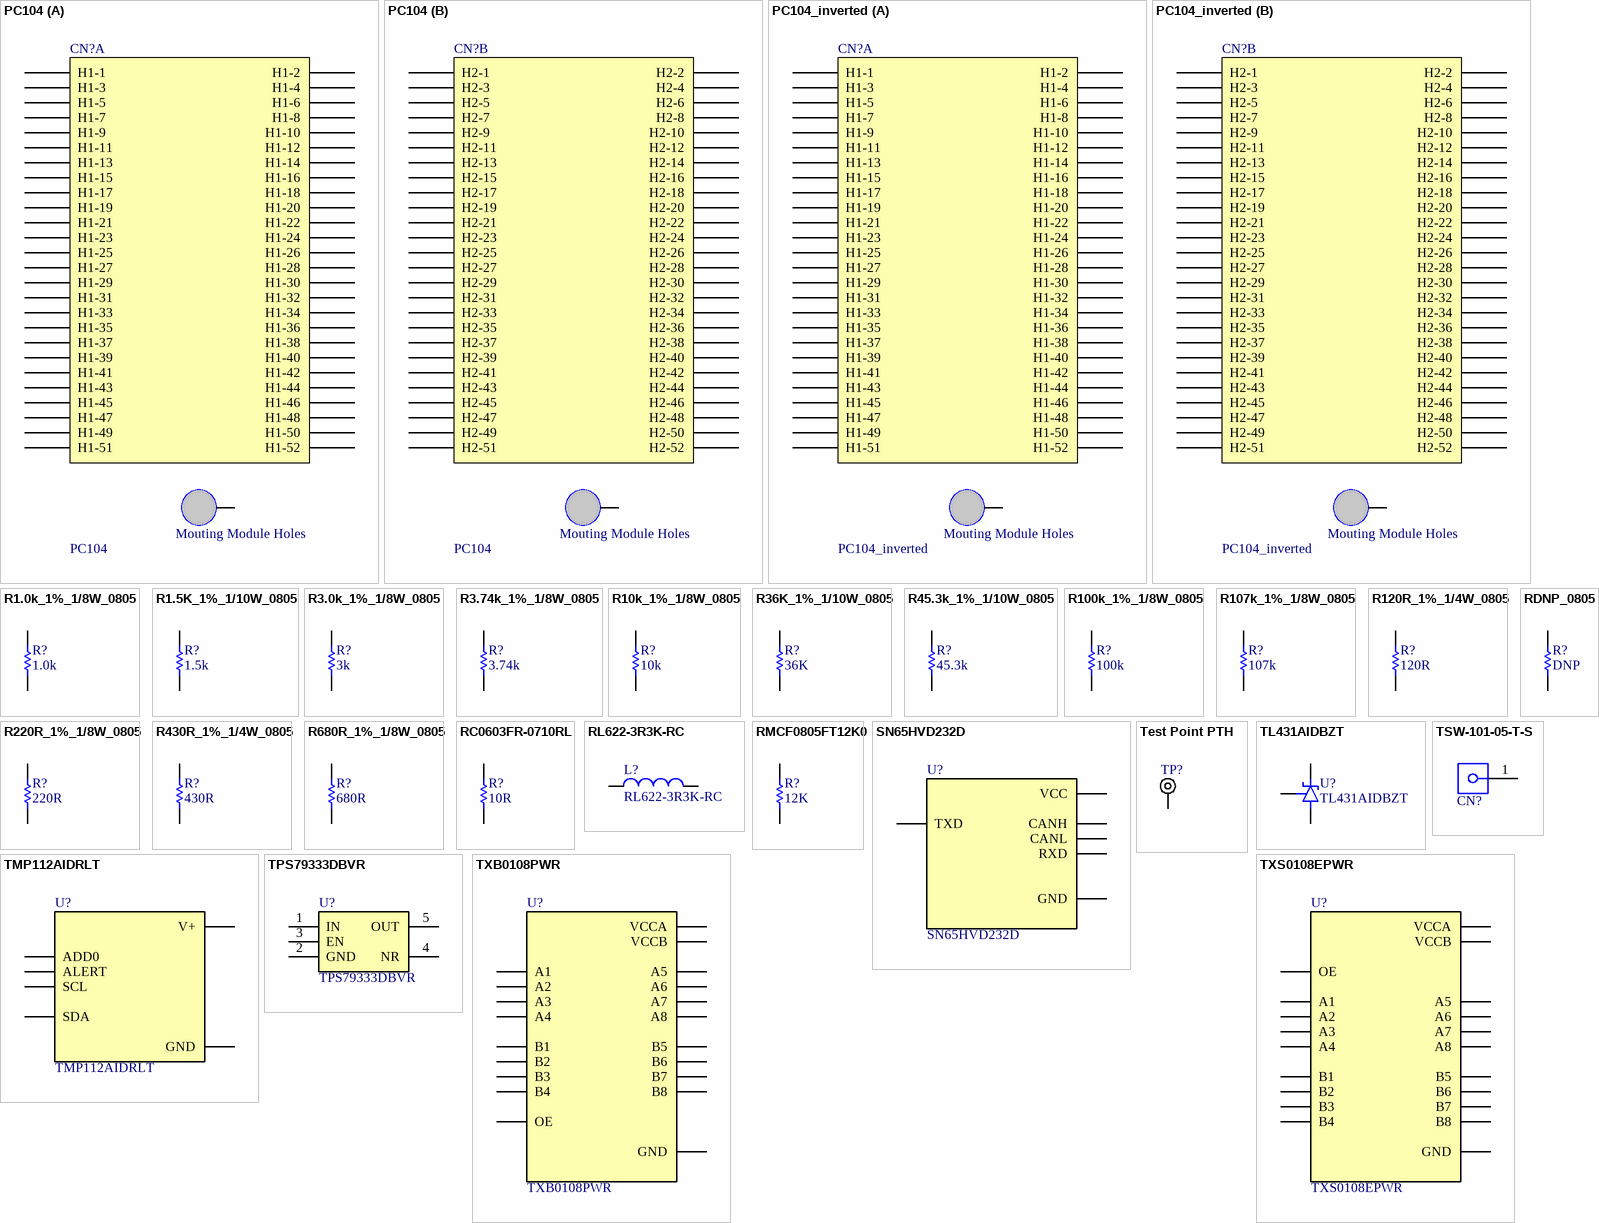
[diagram p2: symbols PC104 to TXS0108EPWR]

## PC104
designator CN?
Manufacturer Part Number: SSW-126-01-G-D
footprint EPS (3rd gen 1U EPS from clydespace)
footprint PC104 (3rd gen 1U EPS from clydespace)
part A pins: 0 Mouting, 1 H1-1, 2 H1-2, 3 H1-3, 4 H1-4, 5 H1-5, 6 H1-6, 7 H1-7, 8 H1-8, 9 H1-9, 10 H1-10, 11 H1-11, 12 H1-12, 13 H1-13, 14 H1-14, 15 H1-15, 16 H1-16, 17 H1-17, 18 H1-18, 19 H1-19, 20 H1-20, 21 H1-21, 22 H1-22, 23 H1-23, 24 H1-24, 25 H1-25, 26 H1-26, 27 H1-27, 28 H1-28, 29 H1-29, 30 H1-30, 31 H1-31, 32 H1-32, 33 H1-33, 34 H1-34, 35 H1-35, 36 H1-36, 37 H1-37, 38 H1-38, 39 H1-39, 40 H1-40, 41 H1-41, 42 H1-42, 43 H1-43, 44 H1-44, 45 H1-45, 46 H1-46, 47 H1-47, 48 H1-48, 49 H1-49, 50 H1-50, 51 H1-51, 52 H1-52
part B pins: 0 Mouting, 53 H2-1, 54 H2-2, 55 H2-3, 56 H2-4, 57 H2-5, 58 H2-6, 59 H2-7, 60 H2-8, 61 H2-9, 62 H2-10, 63 H2-11, 64 H2-12, 65 H2-13, 66 H2-14, 67 H2-15, 68 H2-16, 69 H2-17, 70 H2-18, 71 H2-19, 72 H2-20, 73 H2-21, 74 H2-22, 75 H2-23, 76 H2-24, 77 H2-25, 78 H2-26, 79 H2-27, 80 H2-28, 81 H2-29, 82 H2-30, 83 H2-31, 84 H2-32, 85 H2-33, 86 H2-34, 87 H2-35, 88 H2-36, 89 H2-37, 90 H2-38, 91 H2-39, 92 H2-40, 93 H2-41, 94 H2-42, 95 H2-43, 96 H2-44, 97 H2-45, 98 H2-46, 99 H2-47, 100 H2-48, 101 H2-49, 102 H2-50, 103 H2-51, 104 H2-52
part A text: Mouting Module Holes
part B text: Mouting Module Holes

## PC104_inverted
designator CN?
Manufacturer Part Number: TSW-126-07-G-D
footprint EPS (3rd gen 1U EPS from clydespace)
footprint PC104 (3rd gen 1U EPS from clydespace)
footprint PC104_inverted (Connector; Header; 26x4 Position)
part A pins: 0 Mouting, 1 H1-1, 2 H1-2, 3 H1-3, 4 H1-4, 5 H1-5, 6 H1-6, 7 H1-7, 8 H1-8, 9 H1-9, 10 H1-10, 11 H1-11, 12 H1-12, 13 H1-13, 14 H1-14, 15 H1-15, 16 H1-16, 17 H1-17, 18 H1-18, 19 H1-19, 20 H1-20, 21 H1-21, 22 H1-22, 23 H1-23, 24 H1-24, 25 H1-25, 26 H1-26, 27 H1-27, 28 H1-28, 29 H1-29, 30 H1-30, 31 H1-31, 32 H1-32, 33 H1-33, 34 H1-34, 35 H1-35, 36 H1-36, 37 H1-37, 38 H1-38, 39 H1-39, 40 H1-40, 41 H1-41, 42 H1-42, 43 H1-43, 44 H1-44, 45 H1-45, 46 H1-46, 47 H1-47, 48 H1-48, 49 H1-49, 50 H1-50, 51 H1-51, 52 H1-52
part B pins: 0 Mouting, 53 H2-1, 54 H2-2, 55 H2-3, 56 H2-4, 57 H2-5, 58 H2-6, 59 H2-7, 60 H2-8, 61 H2-9, 62 H2-10, 63 H2-11, 64 H2-12, 65 H2-13, 66 H2-14, 67 H2-15, 68 H2-16, 69 H2-17, 70 H2-18, 71 H2-19, 72 H2-20, 73 H2-21, 74 H2-22, 75 H2-23, 76 H2-24, 77 H2-25, 78 H2-26, 79 H2-27, 80 H2-28, 81 H2-29, 82 H2-30, 83 H2-31, 84 H2-32, 85 H2-33, 86 H2-34, 87 H2-35, 88 H2-36, 89 H2-37, 90 H2-38, 91 H2-39, 92 H2-40, 93 H2-41, 94 H2-42, 95 H2-43, 96 H2-44, 97 H2-45, 98 H2-46, 99 H2-47, 100 H2-48, 101 H2-49, 102 H2-50, 103 H2-51, 104 H2-52
part A text: Mouting Module Holes
part B text: Mouting Module Holes

## R1.0k_1%_1/8W_0805
designator R?, comment 1.0k
RES 1.0K OHM 1/8W 1% 0805; Manufacturer Part Number: RC0805FR-071KL; NCM: 8533.21.20
footprint 0805
pins: 1, 2

## R1.5K_1%_1/10W_0805
designator R?, comment 1.5k
RES 1.5K OHM 1/10W 0.1% 0805; Manufacturer Part Number: RN73C2A1K5BTDF; NCM: 8533.21.20
footprint 0805
pins: 1, 2

## R3.0k_1%_1/8W_0805
designator R?, comment 3k
RES 3.0K OHM 1/10W 0.1% 0805; Manufacturer Part Number: ERA-6YEB302V; NCM: 8533.21.20
footprint 0805
pins: 1, 2

## R3.74k_1%_1/8W_0805
designator R?, comment 3.74k
RES 3.74K OHM 1/8W 0.5% 0805; Manufacturer Part Number: RT0805DRE073K74L; NCM: 8533.21.20
footprint 0805
pins: 1, 2

## R10k_1%_1/8W_0805
designator R?, comment 10k
RES 10K OHM 1/8W 1%  0805; Manufacturer Part Number: CRCW080510K0FKEA; NCM: 8533.21.20
footprint 0805
pins: 1, 2

## R36K_1%_1/10W_0805
designator R?, comment 36K
RES 36K OHM 1/8W 0.1% 0805; Manufacturer Part Number: RG2012N-363-B-T5; NCM: 8533.21.20
footprint 0805
pins: 1, 2

## R45.3k_1%_1/10W_0805
designator R?, comment 45.3k
RES 45.3K OHM 1/8W 1% 0805; Manufacturer Part Number: RC0805FR-0745K3L; NCM: 8533.21.20
footprint 0805
pins: 1, 2

## R100k_1%_1/8W_0805
designator R?, comment 100k
RES 100K OHM 1/8W 1% 0805; Manufacturer Part Number: AC0805FR-13100KL; NCM: 8533.21.20
footprint 0805
pins: 1, 2

## R107k_1%_1/8W_0805
designator R?, comment 107k
RES 107K OHM 1/8W 1% 0805; Manufacturer Part Number: RC0805FR-07107KL; NCM: 8533.21.20
footprint 0805
pins: 1, 2

## R120R_1%_1/4W_0805
designator R?, comment 120R
RES 120R OHM 1/8W 1% 0805; Manufacturer Part Number: CRGCQ0805F120R; NCM: 8533.21.20
footprint 0805
pins: 1, 2

## R220R_1%_1/8W_0805
designator R?, comment 220R
RES 220R OHM 1/8W 1% 0805; Manufacturer Part Number: CRCW0805220RFKEA; NCM: 8533.21.20
footprint 0805
pins: 1, 2

## R430R_1%_1/4W_0805
designator R?, comment 430R
RES 430R OHM 1/8W 0.1% 0805; Manufacturer Part Number: RT0805BRD07430RL; NCM: 8533.21.20
footprint 0805
pins: 1, 2

## R680R_1%_1/8W_0805
designator R?, comment 680R
RES 680R OHM 1/8W 1% 0805; Manufacturer Part Number: CRGCQ0805F680R; NCM: 8533.21.20
footprint 0805
pins: 1, 2

## RC0603FR-0710RL
designator R?, comment 10R
RES 10R OHM 1/10W 1% 0603; Manufacturer: Yageo; Manufacturer Part Number: RC0603FR-0710RL; Temperature Coefficient: 200ppm/°C; Voltage Rating (DC): 50V; Power Rating: 100mW; Supplier 1: Digi-Key; Supplier Part Number 1: 311-10.0HRCT-ND; Stock 1: 9251104; Pricing 1: 1=0.1, 10=0.046, 100=0.0187, 1000=0.0084, 2500=0.00729 (USD); Case/Package: 0603; Number of Pins: 2; Case Code (Imperial): 0603; Case Code (Metric): 1608; Contact Plating: Tin,Matte; Min Operating Temperature: -55°C; Max Operating Temperature: 155°C; Tolerance: 1%; Composition: Thick Film; Packaging: Tape and Reel; Voltage Rating: 50V; Termination: SMD/SMT; Military Standard: Not; Length: 1.6mm; Height: 0.45mm; Width: 0.8mm; Depth: 0.8mm; Radiation Hardening: No; Lead Free: Lead Free; REACH SVHC: No SVHC; ComponentLink1URL: http://www.farnell.com/datasheets/1868787.pdf?src-supplier=Element14; ComponentLink1Description: http://www.farnell.com/datasheets/1868787.pdf?src-supplier=Element14; ComponentLink2URL: http://www.yageo.com/documents/recent/PYu-RC0603_51_RoHS_L_4.pdf?src-supplier=Avnet; ComponentLink2Description: http://www.yageo.com/documents/recent/PYu-RC0603_51_RoHS_L_4.pdf?src-supplier=Avnet; ComponentLink3URL: http://documents.rs-components.com/techlib://itc_doclist_GB.htm?stockno=5048984&src-supplier=RSComponents; ComponentLink3Description: http://documents.rs-components.com/techlib://itc_doclist_GB.htm?stockno=5048984&src-supplier=RSComponents; ComponentLink4URL: http://www.yageo.com/documents/recent/PYu-RC0603_51_RoHS_L_4.pdf?src-supplier=Avnet+Europe; ComponentLink4Description: http://www.yageo.com/documents/recent/PYu-RC0603_51_RoHS_L_4.pdf?src-supplier=Avnet+Europe; Supplier 2: Mouser; Supplier Part Number 2: 603-RC0603FR-0710RL; Stock 2: 267888; Pricing 2: 1=0.15, 10=0.036, 100=0.012, 1000=0.009, 5000=0.006, 10000=0.006 (USD)
footprint R0603_MD (Chip Resistor, Body 1.6x0.8mm, IPC Medium Density)
pins: 1, 2

## RDNP_0805
designator R?, comment DNP
RES DNP 0805; Manufacturer Part Number: UR73V2ATTD47L0F; NCM: 8533.21.20
footprint 0805
pins: 1, 2

## RL622-3R3K-RC
designator L?
3.3ÂµH Unshielded Wirewound Inductor 5.5A 25mOhm Max Radial, Vertical Cylinder; MF: Bourns; Price: None; Value: *; Package: Radial Bourns - J.W. Miller; Purchase-URL: https://pricing.snapeda.com/search/part/RL622-3R3K-RC/?ref=eda; SnapEDA_Link: https://www.snapeda.com/parts/RL622-3R3K-RC/Bourns/view-part/337281/?ref=snap; Check_prices: https://www.snapeda.com/parts/RL622-3R3K-RC/Bourns/view-part/337281/?ref=eda; Availability: Good; Manufacturer Part Number: RL622-3R3K-RC
footprint RL622
pins: 1, 2

## RMCF0805FT12K0
designator R?, comment 12K
RES 12K OHM 1/8W 1% 0805; Manufacturer: Stackpole Electronics; Manufacturer Part Number: RMCF0805FT12K0; Power Rating: 125mW; Temperature Coefficient: 100ppm/°C; Supplier 1: Digi-Key; Supplier Part Number 1: RMCF0805FT12K0CT-ND; Stock 1: 30304; Pricing 1: 1=0.1, 10=0.026, 100=0.0104, 1000=0.00466, 2500=0.00405 (USD); Mount: Surface Mount; Case/Package: 0805; Case Code (Metric): 2012; Case Code (Imperial): 0805; Contact Plating: Tin,Matte; Min Operating Temperature: -55°C; Max Operating Temperature: 155°C; Packaging: Tape and Reel; Composition: Thick Film; Number of Terminations: 2; Max Power Dissipation: 125mW; Features: Automotive AEC-Q200; Length: 0.079inch; Height: 0.026inch; Width: 0.049inch; Radiation Hardening: No; Lead Free: Lead Free; ComponentLink1URL: https://www.seielect.com/catalog/SEI-RMCF_RMCP.pdf?src-supplier=Avnet; ComponentLink1Description: https://www.seielect.com/catalog/SEI-RMCF_RMCP.pdf?src-supplier=Avnet; ComponentLink2URL: https://www.seielect.com/Catalog/SEI-RMCF_RMCP.pdf?src-supplier=Digi-Key; ComponentLink2Description: https://www.seielect.com/Catalog/SEI-RMCF_RMCP.pdf?src-supplier=Digi-Key; ComponentLink3URL: https://www.seielect.com/catalog/SEI-Packaging.pdf?src-supplier=Digi-Key; ComponentLink3Description: https://www.seielect.com/catalog/SEI-Packaging.pdf?src-supplier=Digi-Key; ComponentLink4URL: http://seielect.com/Catalog/SEI-RMCF_RMCP.pdf?src-supplier=Future+Electronics; ComponentLink4Description: http://seielect.com/Catalog/SEI-RMCF_RMCP.pdf?src-supplier=Future+Electronics; ComponentLink5URL: http://components.arrow.com/part/dataview/40964023S7542466N1174?src-supplier=Arrow; ComponentLink5Description: http://components.arrow.com/part/dataview/40964023S7542466N1174?src-supplier=Arrow; Tolerance: 1%
footprint R0805_MD (Chip Resistor, Body 2.0x1.3mm, IPC Medium Density)
pins: 1, 2

## SN65HVD232D
designator U?
3.3 V CAN Transceiver; MF: Texas Instruments; Availability: Unavailable; Package: SOIC-8 Texas Instruments; DigiKey-Purchase-URL: https://snapeda.com/shop?store=DigiKey&id=230614; SnapEDA_Link: https://www.snapeda.com/parts/SN65HVD232D/Texas%20Instruments/view-part/230614/?ref=snap; Mouser-Purchase-URL: https://snapeda.com/shop?store=Mouser&id=230614; Value: *; Price: None; Texas_Instruments-Purchase-URL: https://snapeda.com/shop?store=Texas+Instruments&id=230614; Manufacturer Part Number: SN65HVD232D
footprint SOIC127P599X175-8N
footprint SOIC127P599X175-8N
pins: 1 TXD (power), 2 GND (power), 3 VCC (power), 4 RXD (power), 6 CANL (power), 7 CANH (power)

## Test Point PTH
designator TP?  (no BOM)
TEST POINT PAD
footprint TEST POINT PTH
pins: 1

## TL431AIDBZT
designator U?
Shunt Voltage Reference IC 36V Â±1% SOT-23-3; MF: Texas Instruments; SnapEDA_Link: https://www.snapeda.com/parts/TL431AIDBZT/Texas%20Instruments/view-part/277644/?ref=snap; Package: SOT-23-3 Texas Instruments; Price: None; Value: *; Availability: Unavailable; Manufacturer Part Number: TL431AIDBZT
footprint SOT95P237X112-3N
footprint SOT95P237X112-3N
pins: 1 CATHODE, 2 REF, 3 ANODE

## TMP112AIDRLT
designator U?
0.5C 1.4V to 3.6V digital temperature sensor with I2C/SMBus in 2.56mm2 package 6-SOT-5X3 -40 to 125; MF: Texas Instruments; Texas_Instruments-Purchase-URL: https://snapeda.com/shop?store=Texas+Instruments&id=237309; Price: None; Mouser-Purchase-URL: https://snapeda.com/shop?store=Mouser&id=237309; Availability: Good; Package: SOT-5X3-6 Texas Instruments; SnapEDA_Link: https://www.snapeda.com/parts/TMP112AIDRLT/Texas%20Instruments/view-part/237309/?ref=snap; DigiKey-Purchase-URL: https://snapeda.com/shop?store=DigiKey&id=237309; Value: *; Manufacturer Part Number: TMP112AIDRLT
footprint SOT50P160X60-6N
footprint SOT50P160X60-6N
pins: 1 SCL (power), 2 GND (power), 3 ALERT (power), 4 ADD0 (power), 5 V+ (power), 6 SDA (power)

## TPS79333DBVR
designator U?
TEXAS INSTRUMENTS - TPS79333DBVR - IC, V REG, LINEAR, 0.2A, SOT-23-5; Number of Outputs: 1; Output Voltage: 3.3V; Max Power Dissipation: 560mW; Max Output Current: 200mA; Max Input Voltage: 5.5V; Min Input Voltage: 2.7V; Polarity: Positive; Quiescent Current: 200uA; Accuracy: 2%; Output Type: Fixed; Dropout Voltage: 102mV; Min Current Limit: 285mA; Input Bias Current: 170uA; Supplier 1: Digi-Key; Supplier Part Number 1: 296-12961-1-ND; Manufacturer: Texas Instruments; Stock 1: 21565; Pricing 1: 1=0.73, 10=0.64, 25=0.6016, 100=0.4559, 250=0.388, 500=0.3686, 1000=0.2813 (USD); Case/Package: SOT-23; Number of Pins: 5; Min Operating Temperature: -40°C; Max Operating Temperature: 125°C; Output Current: 200mA; Packaging: Tape and Reel; Package Quantity: 1; Number of Regulators: 1; Min Output Voltage: 3.3V; Power Dissipation: 560mW; Max Output Voltage: 3.3V; Output Voltage Accuracy: 2%; Nominal Output Voltage: 3.3V; Power Rating: 560mW; Max Supply Voltage: 5.5V; Min Supply Voltage: 2.7V; Termination: SMD/SMT; Current Rating: 200mA; Length: 2.9mm; Height: 1.15mm; Width: 1.6mm; Radiation Hardening: No; Lead Free: Lead Free; REACH SVHC: No SVHC; ComponentLink1URL: http://www.ti.com/general/docs/lit/getliterature.tsp?genericPartNumber=TPS793&amp;&amp;fileType=pdf&src-supplier=Farnell; ComponentLink1Description: http://www.ti.com/general/docs/lit/getliterature.tsp?genericPartNumber=TPS793&amp;&amp;fileType=pdf&src-supplier=Farnell; ComponentLink2URL: http://www.jameco.com/Jameco/Products/ProdDS/1123416.pdf?src-supplier=Jameco; ComponentLink2Description: http://www.jameco.com/Jameco/Products/ProdDS/1123416.pdf?src-supplier=Jameco; Supplier 2: Mouser; Supplier Part Number 2: 595-TPS79333DBVR; Stock 2: 31707; Pricing 2: 1=0.72, 10=0.6, 100=0.379, 1000=0.289, 2000=0.282, 3000=0.252, 9000=0.242, 48000=0.233 (USD); Manufacturer Part Number: TPS79333DBVR
footprint SOT23-5
pins: 1 IN, 2 GND, 3 EN, 4 NR, 5 OUT

## TSW-101-05-T-S
designator CN?  (value not drawn)
CONN HEADER 1POS .100" SNGL TIN; Manufacturer: Samtec Inc; N of Positions: 2; Pitch: 2.54mm; Mount Type: PTH; Supplier 1: Farnell; Supplier Part Number 1: 1925384; Supplier 2: Newark; Supplier Part Number 2: 84T5043; Supplier 3: Digi-Key; Supplier Part Number 3: SAM1019-02-ND; Supplier 4: Arrow; Supplier Part Number 4: T9xGEsh_w6igb0LY4EP_nwsWhIkhCEmR3qLYTGm2XzA; Supplier 5: Digi-Key; Supplier Part Number 5: SAM1019-01-ND; Supplier 6: Newark; Supplier Part Number 6: 69X6269; Manufacturer Part Number: TSW-101-05-T-S
footprint PIN BAR 1 2.54mm 180 GRAUS - Hide (HEADER 1 2.54mm 180 GRAUS)
pins: 1

## TXB0108PWR
designator U?
8-Bit Bidirectional Voltage-Level Shifter with Auto Direction Sensing and +/-15-kV ESD Protect 20-TSSOP -40 to 85; MF: Texas Instruments; SnapEDA_Link: https://www.snapeda.com/parts/TXB0108PWR/Texas%20Instruments/view-part/45111/?ref=snap; Digi-Key_Part_Number: 296-21527-1-ND; Texas_Instruments-Purchase-URL: https://snapeda.com/shop?store=Texas+Instruments&id=45111; Package: TSSOP-20 Texas Instruments; Value: *; Manufacturer Part Number: TXB0108PWR
footprint SOP65P640X120-20N
footprint SOP65P640X120-20N
pins: 1 A1 (power), 2 VCCA (power), 3 A2 (power), 4 A3 (power), 5 A4 (power), 6 A5 (power), 7 A6 (power), 8 A7 (power), 9 A8 (power), 10 OE (power), 11 GND (power), 12 B8 (power), 13 B7 (power), 14 B6 (power), 15 B5 (power), 16 B4 (power), 17 B3 (power), 18 B2 (power), 19 VCCB (power), 20 B1 (power)

## TXS0108EPWR
designator U?
8-Bit Bidirectional Voltage-Level Shifter For Open-Drain And Push-Pull Application; MF: Texas Instruments; DigiKey-Purchase-URL: https://snapeda.com/shop?store=DigiKey&id=105750; Value: *; Texas_Instruments-Purchase-URL: https://snapeda.com/shop?store=Texas+Instruments&id=105750; Availability: Unavailable; Package: TSSOP-20 Texas Instruments; Mouser-Purchase-URL: https://snapeda.com/shop?store=Mouser&id=105750; SnapEDA_Link: https://www.snapeda.com/parts/TXS0108EPWR/Texas%20Instruments/view-part/105750/?ref=snap; Price: None; Manufacturer Part Number: TXS0108EPWR
footprint SOP65P640X120-20N
footprint SOP65P640X120-20N
pins: 1 A1 (power), 2 VCCA (power), 3 A2 (power), 4 A3 (power), 5 A4 (power), 6 A5 (power), 7 A6 (power), 8 A7 (power), 9 A8 (power), 10 OE (power), 11 GND (power), 12 B8 (power), 13 B7 (power), 14 B6 (power), 15 B5 (power), 16 B4 (power), 17 B3 (power), 18 B2 (power), 19 VCCB (power), 20 B1 (power)